# EAGLE library part PIC16F690 (library 1A-meinLib)
20 Pin Flash-Based, 8-Bit CMOS Microcontroller with nanoWatt Technology. Microchip
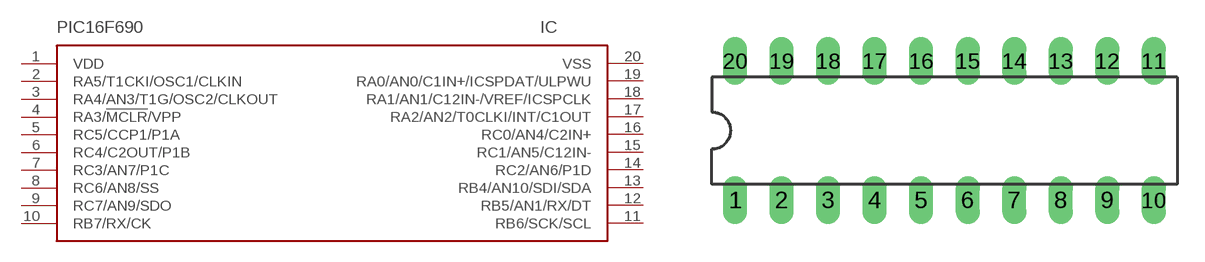
[diagram p275: symbol with the pads of DIL20; footprint DIL20]

Designator prefix IC

## PIC16F690  [DIL20]
1  VDD  pwr
2  RA5/T1CKI/OSC1/CLKIN
3  RA4/AN3/T1G/OSC2/CLKOUT
4  RA3/!MCLR!/VPP
5  RC5/CCP1/P1A
6  RC4/C2OUT/P1B
7  RC3/AN7/P1C
8  RC6/AN8/SS
9  RC7/AN9/SDO
10  RB7/RX/CK
11  RB6/SCK/SCL
12  RB5/AN1/RX/DT
13  RB4/AN10/SDI/SDA
14  RC2/AN6/P1D
15  RC1/AN5/C12IN-
16  RC0/AN4/C2IN+
17  RA2/AN2/T0CLKI/INT/C1OUT
18  RA1/AN1/C12IN-/VREF/ICSPCLK
19  RA0/AN0/C1IN+/ICSPDAT/ULPWU
20  VSS  pwr

## Footprint DIL20 (pad centres in mm)
drill 0.813 long: 1 -10.16,-3.81; 2 -7.62,-3.81; 3 -5.08,-3.81; 4 -2.54,-3.81; 5 0,-3.81; 6 2.54,-3.81; 7 5.08,-3.81; 8 7.62,-3.81; 9 10.16,-3.81; 10 12.7,-3.81; 11 12.7,3.81; 12 10.16,3.81; 13 7.62,3.81; 14 5.08,3.81; 15 2.54,3.81; 16 0,3.81; 17 -2.54,3.81; 18 -5.08,3.81; 19 -7.62,3.81; 20 -10.16,3.81